# EAGLE library part 691413720009 (library Wurth_Elektronik_Electromechanic_Terminal_Blocks_Connectors_rev16b)
WR-TBL Terminal block - serie 413 5.0mm - Spring clamp/Screw less - 45° entry - 09p Code:Con_TBL_Screwless_5.00_6914137200xxB_691413720009 Created 2014-12-22, aslant tao 2014 (C) Würth Elektronik
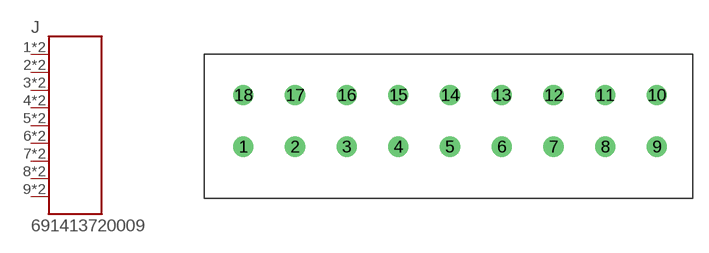
[diagram p256: symbol with the pads of 691413720009; footprint 691413720009]

Designator prefix J

## 691413720009  [691413720009]
1  1  pas
2  2  pas
3  3  pas
4  4  pas
5  5  pas
6  6  pas
7  7  pas
8  8  pas
9  9  pas
10  9  pas
11  8  pas
12  7  pas
13  6  pas
14  5  pas
15  4  pas
16  3  pas
17  2  pas
18  1  pas

## Footprint 691413720009 (pad centres in mm)
WR-TBL Serie 413 - 5.0mm Screwless 45° Entry - 3 mm2 Wires, 9 Pins
drill 1.3: 1 -10,-2.5; 2 -5,-2.5; 3 0,-2.5; 4 5,-2.5; 5 10,-2.5; 6 15,-2.5; 7 20,-2.5; 8 25,-2.5; 9 30,-2.5; 10 30,2.5; 11 25,2.5; 12 20,2.5; 13 15,2.5; 14 10,2.5; 15 5,2.5; 16 0,2.5; 17 -5,2.5; 18 -10,2.5